# Altium footprint library WR-MM.PcbLib: 120 footprints (part 7 of 8)
Each footprint in its own frame and in the unit in brackets; x right, y up, seen from the top. Pads: shape width x height; smd on the part's side, far side on the other; paste and mask are expansions set on the pad; w line width, h text height; cw(c..) or ccw(c..) is an arc to the next point about the centre after c.
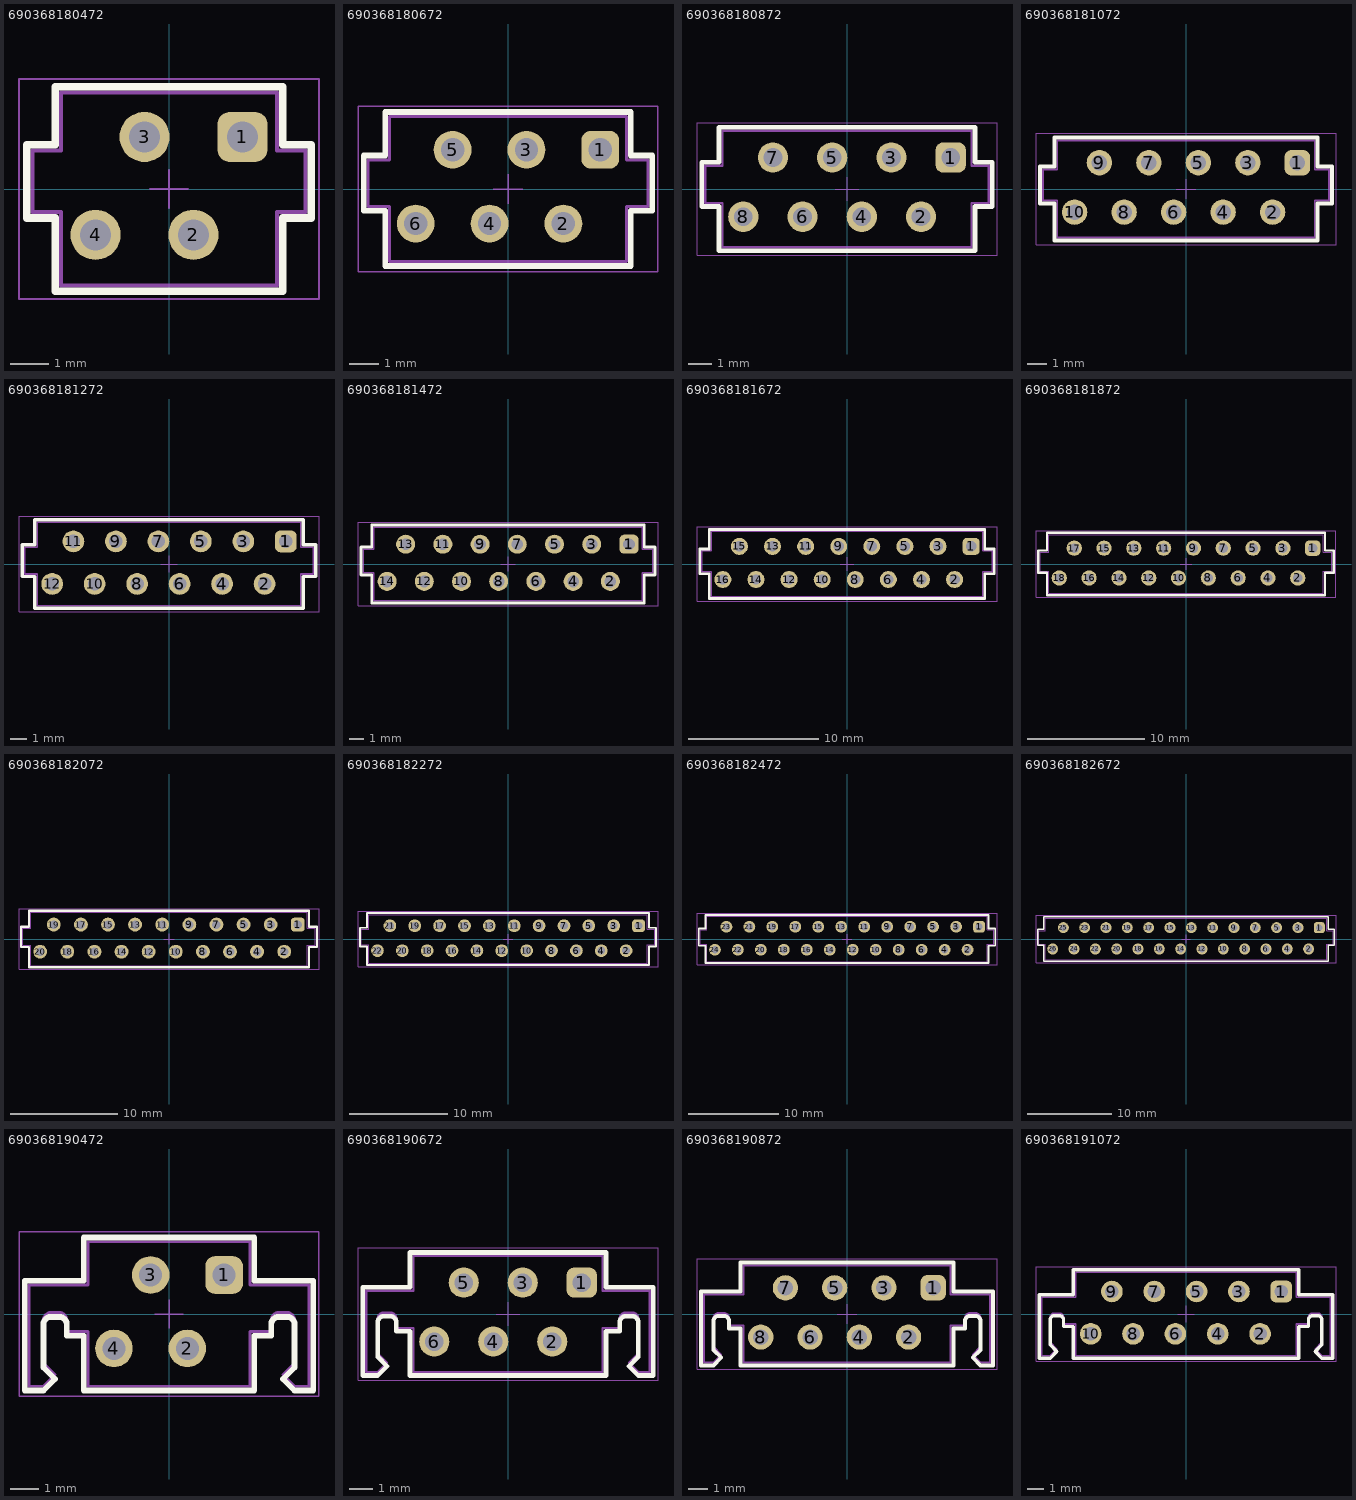
[diagram p6: the footprints below, top view; thin cyan lines are the x and y axes]

## 690368180472 [mm] "MiniModule Connectors, PCB Type, Female, THT, Angled, 4p"
height 6
pads (4):
  rrect50% 1.3x1.3 hole 0.8: 1(1.905,1.35)
  round 1.3 hole 0.8: 2(0.635,-1.19) 3(-0.635,1.35) 4(-1.905,-1.19)
Top Overlay:
  lines w0.2: -3.69,-0.75 -2.95,-0.75 -2.95,-2.65 2.95,-2.65 2.95,-0.75 3.69,-0.75 3.69,1.15 2.95,1.15 2.95,2.65 -2.95,2.65 -2.95,1.15 -3.69,1.15 -3.69,-0.75
Top Designator:
  text ".Designator" at -7.498,-0.5 h1.5
Top Component Outline:
  lines w0.1: -3.54,-0.6 -2.8,-0.6 -2.8,-2.5 2.8,-2.5 2.8,-0.6 3.54,-0.6 3.54,1 2.8,1 2.8,2.5 -2.8,2.5 -2.8,1 -3.54,1 -3.54,-0.6
Top 3D Body:
  lines w0.1: -3.54,-0.6 -3.54,1 -2.8,1 -2.8,2.5 2.8,2.5 2.8,1 3.54,1 3.54,-0.6 2.8,-0.6 2.8,-2.5 -2.8,-2.5 -2.8,-0.6 -3.54,-0.6
Top Courtyard:
  lines w0.05: -0.5,0 0.5,0 ; 0,-0.5 0,0.5 ; -3.89,-2.85 -3.89,2.85 3.89,2.85 3.89,-2.85 -3.89,-2.85
3D body "690368180472.stp": height 5.85, standoff -3.05, extent -3.54,-2.5 3.54,2.5

## 690368180672 [mm] "MiniModule Connectors, PCB Type, Female, THT, Angled, 6p"
height 6
pads (6):
  rrect50% 1.3x1.3 hole 0.8: 1(3.175,1.35)
  round 1.3 hole 0.8: 2(1.905,-1.19) 3(0.635,1.35) 4(-0.635,-1.19) 5(-1.905,1.35) 6(-3.175,-1.19)
Top Overlay:
  lines w0.2: -4.96,-0.75 -4.22,-0.75 -4.22,-2.65 4.22,-2.65 4.22,-0.75 4.96,-0.75 4.96,1.15 4.22,1.15 4.22,2.65 -4.22,2.65 -4.22,1.15 -4.96,1.15 -4.96,-0.75
Top Designator:
  text ".Designator" at -7.498,-0.5 h1.5
Top Component Outline:
  lines w0.1: -4.81,-0.6 -4.07,-0.6 -4.07,-2.5 4.07,-2.5 4.07,-0.6 4.81,-0.6 4.81,1 4.07,1 4.07,2.5 -4.07,2.5 -4.07,1 -4.81,1 -4.81,-0.6
Top 3D Body:
  lines w0.1: -4.81,-0.6 -4.81,1 -4.07,1 -4.07,2.5 4.07,2.5 4.07,1 4.81,1 4.81,-0.6 4.07,-0.6 4.07,-2.5 -4.07,-2.5 -4.07,-0.6 -4.81,-0.6
Top Courtyard:
  lines w0.05: -0.5,0 0.5,0 ; 0,-0.5 0,0.5 ; -5.16,-2.85 -5.16,2.85 5.16,2.85 5.16,-2.85 -5.16,-2.85
3D body "690368180672.stp": height 5.85, standoff -3.05, extent -4.81,-2.5 4.81,2.5

## 690368180872 [mm] "MiniModule Connectors, PCB Type, Female, THT, Angled, 8p"
height 6
pads (8):
  rrect50% 1.3x1.3 hole 0.8: 1(4.445,1.35)
  round 1.3 hole 0.8: 2(3.175,-1.19) 3(1.905,1.35) 4(0.635,-1.19) 5(-0.635,1.35) 6(-1.905,-1.19) 7(-3.175,1.35) 8(-4.445,-1.19)
Top Overlay:
  lines w0.2: -6.23,-0.75 -5.49,-0.75 -5.49,-2.65 5.49,-2.65 5.49,-0.75 6.23,-0.75 6.23,1.15 5.49,1.15 5.49,2.65 -5.49,2.65 -5.49,1.15 -6.23,1.15 -6.23,-0.75
Top Designator:
  text ".Designator" at -7.498,-0.5 h1.5
Top Component Outline:
  lines w0.1: -6.08,-0.6 -5.34,-0.6 -5.34,-2.5 5.34,-2.5 5.34,-0.6 6.08,-0.6 6.08,1 5.34,1 5.34,2.5 -5.34,2.5 -5.34,1 -6.08,1 -6.08,-0.6
Top 3D Body:
  lines w0.1: -6.08,-0.6 -6.08,1 -5.34,1 -5.34,2.5 5.34,2.5 5.34,1 6.08,1 6.08,-0.6 5.34,-0.6 5.34,-2.5 -5.34,-2.5 -5.34,-0.6 -6.08,-0.6
Top Courtyard:
  lines w0.05: -0.5,0 0.5,0 ; 0,-0.5 0,0.5 ; -6.43,-2.85 -6.43,2.85 6.43,2.85 6.43,-2.85 -6.43,-2.85
3D body "690368180872.stp": height 5.85, standoff -3.05, extent -6.08,-2.5 6.08,2.5

## 690368181072 [mm] "MiniModule Connectors, PCB Type, Female, THT, Angled, 10p"
height 6
pads (10):
  rrect50% 1.3x1.3 hole 0.8: 1(5.715,1.35)
  round 1.3 hole 0.8: 2(4.445,-1.19) 3(3.175,1.35) 4(1.905,-1.19) 5(0.635,1.35) 6(-0.635,-1.19) 7(-1.905,1.35) 8(-3.175,-1.19) 9(-4.445,1.35) 10(-5.715,-1.19)
Top Overlay:
  lines w0.2: -7.5,-0.75 -7.5,1.15 -6.76,1.15 -6.76,2.65 6.76,2.65 6.76,1.15 7.5,1.15 7.5,-0.75 6.76,-0.75 6.76,-2.65 -6.76,-2.65 -6.76,-0.75 -7.5,-0.75
Top Designator:
  text ".Designator" at -7.498,-0.5 h1.5
Top Component Outline:
  lines w0.1: -7.35,-0.6 -7.35,1 -6.61,1 -6.61,2.5 6.61,2.5 6.61,1 7.35,1 7.35,-0.6 6.61,-0.6 6.61,-2.5 -6.61,-2.5 -6.61,-0.6 -7.35,-0.6
Top 3D Body:
  lines w0.1: -7.35,-0.6 -6.61,-0.6 -6.61,-2.5 6.61,-2.5 6.61,-0.6 7.35,-0.6 7.35,1 6.61,1 6.61,2.5 -6.61,2.5 -6.61,1 -7.35,1 -7.35,-0.6
Top Courtyard:
  lines w0.05: -0.5,0 0.5,0 ; 0,-0.5 0,0.5 ; -7.7,-2.85 7.7,-2.85 7.7,2.85 -7.7,2.85 -7.7,-2.85
3D body "690368181072.stp": height 5.85, standoff -3.05, extent -7.35,-2.5 7.35,2.5

## 690368181272 [mm] "MiniModule Connectors, PCB Type, Female, THT, Angled, 12p"
height 6
pads (12):
  rrect50% 1.3x1.3 hole 0.8: 1(6.985,1.35)
  round 1.3 hole 0.8: 2(5.715,-1.19) 3(4.445,1.35) 4(3.175,-1.19) 5(1.905,1.35) 6(0.635,-1.19) 7(-0.635,1.35) 8(-1.905,-1.19) 9(-3.175,1.35) 10(-4.445,-1.19) 11(-5.715,1.35) 12(-6.985,-1.19)
Top Overlay:
  lines w0.2: -8.77,-0.75 -8.03,-0.75 -8.03,-2.65 8.03,-2.65 8.03,-0.75 8.77,-0.75 8.77,1.15 8.03,1.15 8.03,2.65 -8.03,2.65 -8.03,1.15 -8.77,1.15 -8.77,-0.75
Top Designator:
  text ".Designator" at -7.498,-0.5 h1.5
Top Component Outline:
  lines w0.1: -8.62,-0.6 -7.88,-0.6 -7.88,-2.5 7.88,-2.5 7.88,-0.6 8.62,-0.6 8.62,1 7.88,1 7.88,2.5 -7.88,2.5 -7.88,1 -8.62,1 -8.62,-0.6
Top 3D Body:
  lines w0.1: -8.62,-0.6 -8.62,1 -7.88,1 -7.88,2.5 7.88,2.5 7.88,1 8.62,1 8.62,-0.6 7.88,-0.6 7.88,-2.5 -7.88,-2.5 -7.88,-0.6 -8.62,-0.6
Top Courtyard:
  lines w0.05: -0.5,0 0.5,0 ; 0,-0.5 0,0.5 ; -8.97,-2.85 -8.97,2.85 8.97,2.85 8.97,-2.85 -8.97,-2.85
3D body "690368181272.stp": height 5.85, standoff -3.05, extent -8.62,-2.5 8.62,2.5

## 690368181472 [mm] "MiniModule Connectors, PCB Type, Female, THT, Angled, 14p"
height 6
pads (14):
  rrect50% 1.3x1.3 hole 0.8: 1(8.255,1.35)
  round 1.3 hole 0.8: 2(6.985,-1.19) 3(5.715,1.35) 4(4.445,-1.19) 5(3.175,1.35) 6(1.905,-1.19) 7(0.635,1.35) 8(-0.635,-1.19) 9(-1.905,1.35) 10(-3.175,-1.19) 11(-4.445,1.35) 12(-5.715,-1.19) 13(-6.985,1.35) 14(-8.255,-1.19)
Top Overlay:
  lines w0.2: -10.04,-0.75 -10.04,1.15 -9.3,1.15 -9.3,2.65 9.3,2.65 9.3,1.15 10.04,1.15 10.04,-0.75 9.3,-0.75 9.3,-2.65 -9.3,-2.65 -9.3,-0.75 -10.04,-0.75
Top Designator:
  text ".Designator" at -7.498,-0.5 h1.5
Top Component Outline:
  lines w0.1: -9.89,-0.6 -9.89,1 -9.15,1 -9.15,2.5 9.15,2.5 9.15,1 9.89,1 9.89,-0.6 9.15,-0.6 9.15,-2.5 -9.15,-2.5 -9.15,-0.6 -9.89,-0.6
Top 3D Body:
  lines w0.1: -9.89,-0.6 -9.15,-0.6 -9.15,-2.5 9.15,-2.5 9.15,-0.6 9.89,-0.6 9.89,1 9.15,1 9.15,2.5 -9.15,2.5 -9.15,1 -9.89,1 -9.89,-0.6
Top Courtyard:
  lines w0.05: -0.5,0 0.5,0 ; 0,-0.5 0,0.5 ; -10.24,-2.85 10.24,-2.85 10.24,2.85 -10.24,2.85 -10.24,-2.85
3D body "690368181472.stp": height 5.85, standoff -3.05, extent -9.89,-2.5 9.89,2.5

## 690368181672 [mm] "MiniModule Connectors, PCB Type, Female, THT, Angled, 16p"
height 6
pads (16):
  rrect50% 1.3x1.3 hole 0.8: 1(9.525,1.35)
  round 1.3 hole 0.8: 2(8.255,-1.19) 3(6.985,1.35) 4(5.715,-1.19) 5(4.445,1.35) 6(3.175,-1.19) 7(1.905,1.35) 8(0.635,-1.19) 9(-0.635,1.35) 10(-1.905,-1.19) 11(-3.175,1.35) 12(-4.445,-1.19) 13(-5.715,1.35) 14(-6.985,-1.19) 15(-8.255,1.35) 16(-9.525,-1.19)
Top Overlay:
  lines w0.2: -11.31,-0.75 -11.31,1.15 -10.57,1.15 -10.57,2.65 10.57,2.65 10.57,1.15 11.31,1.15 11.31,-0.75 10.57,-0.75 10.57,-2.65 -10.57,-2.65 -10.57,-0.75 -11.31,-0.75
Top Designator:
  text ".Designator" at -7.498,-0.5 h1.5
Top Component Outline:
  lines w0.1: -11.16,-0.6 -11.16,1 -10.42,1 -10.42,2.5 10.42,2.5 10.42,1 11.16,1 11.16,-0.6 10.42,-0.6 10.42,-2.5 -10.42,-2.5 -10.42,-0.6 -11.16,-0.6
Top 3D Body:
  lines w0.1: -11.16,-0.6 -10.42,-0.6 -10.42,-2.5 10.42,-2.5 10.42,-0.6 11.16,-0.6 11.16,1 10.42,1 10.42,2.5 -10.42,2.5 -10.42,1 -11.16,1 -11.16,-0.6
Top Courtyard:
  lines w0.05: -0.5,0 0.5,0 ; 0,-0.5 0,0.5 ; -11.51,-2.85 11.51,-2.85 11.51,2.85 -11.51,2.85 -11.51,-2.85
3D body "690368181672.stp": height 5.85, standoff -3.05, extent -11.16,-2.5 11.16,2.5

## 690368181872 [mm] "MiniModule Connectors, PCB Type, Female, THT, Angled, 18p"
height 6
pads (18):
  rrect50% 1.3x1.3 hole 0.8: 1(10.795,1.35)
  round 1.3 hole 0.8: 2(9.525,-1.19) 3(8.255,1.35) 4(6.985,-1.19) 5(5.715,1.35) 6(4.445,-1.19) 7(3.175,1.35) 8(1.905,-1.19) 9(0.635,1.35) 10(-0.635,-1.19) 11(-1.905,1.35) 12(-3.175,-1.19) 13(-4.445,1.35) 14(-5.715,-1.19) 15(-6.985,1.35) 16(-8.255,-1.19) 17(-9.525,1.35) 18(-10.795,-1.19)
Top Overlay:
  lines w0.2: -12.58,-0.75 -11.84,-0.75 -11.84,-2.65 11.84,-2.65 11.84,-0.75 12.58,-0.75 12.58,1.15 11.84,1.15 11.84,2.65 -11.84,2.65 -11.84,1.15 -12.58,1.15 -12.58,-0.75
Top Designator:
  text ".Designator" at -7.498,-0.5 h1.5
Top Component Outline:
  lines w0.1: -12.43,-0.6 -11.69,-0.6 -11.69,-2.5 11.69,-2.5 11.69,-0.6 12.43,-0.6 12.43,1 11.69,1 11.69,2.5 -11.69,2.5 -11.69,1 -12.43,1 -12.43,-0.6
Top 3D Body:
  lines w0.1: -12.43,-0.6 -12.43,1 -11.69,1 -11.69,2.5 11.69,2.5 11.69,1 12.43,1 12.43,-0.6 11.69,-0.6 11.69,-2.5 -11.69,-2.5 -11.69,-0.6 -12.43,-0.6
Top Courtyard:
  lines w0.05: -0.5,0 0.5,0 ; 0,-0.5 0,0.5 ; -12.78,-2.85 -12.78,2.85 12.78,2.85 12.78,-2.85 -12.78,-2.85
3D body "690368181872.stp": height 5.85, standoff -3.05, extent -12.43,-2.5 12.43,2.5

## 690368182072 [mm] "MiniModule Connectors, PCB Type, Female, THT, Angled, 20p"
height 6
pads (20):
  rrect50% 1.3x1.3 hole 0.8: 1(12.065,1.35)
  round 1.3 hole 0.8: 2(10.795,-1.19) 3(9.525,1.35) 4(8.255,-1.19) 5(6.985,1.35) 6(5.715,-1.19) 7(4.445,1.35) 8(3.175,-1.19) 9(1.905,1.35) 10(0.635,-1.19) 11(-0.635,1.35) 12(-1.905,-1.19) 13(-3.175,1.35) 14(-4.445,-1.19) 15(-5.715,1.35) 16(-6.985,-1.19) 17(-8.255,1.35) 18(-9.525,-1.19) 19(-10.795,1.35) 20(-12.065,-1.19)
Top Overlay:
  lines w0.2: -13.85,-0.75 -13.85,1.15 -13.11,1.15 -13.11,2.65 13.11,2.65 13.11,1.15 13.85,1.15 13.85,-0.75 13.11,-0.75 13.11,-2.65 -13.11,-2.65 -13.11,-0.75 -13.85,-0.75
Top Designator:
  text ".Designator" at -7.498,-0.5 h1.5
Top Component Outline:
  lines w0.1: -13.7,-0.6 -13.7,1 -12.96,1 -12.96,2.5 12.96,2.5 12.96,1 13.7,1 13.7,-0.6 12.96,-0.6 12.96,-2.5 -12.96,-2.5 -12.96,-0.6 -13.7,-0.6
Top 3D Body:
  lines w0.1: -13.7,-0.6 -12.96,-0.6 -12.96,-2.5 12.96,-2.5 12.96,-0.6 13.7,-0.6 13.7,1 12.96,1 12.96,2.5 -12.96,2.5 -12.96,1 -13.7,1 -13.7,-0.6
Top Courtyard:
  lines w0.05: -0.5,0 0.5,0 ; 0,-0.5 0,0.5 ; -14.05,-2.85 14.05,-2.85 14.05,2.85 -14.05,2.85 -14.05,-2.85
3D body "690368182072.stp": height 5.85, standoff -3.05, extent -13.7,-2.5 13.7,2.5

## 690368182272 [mm] "MiniModule Connectors, PCB Type, Female, THT, Angled, 22p"
height 6
pads (22):
  rrect50% 1.3x1.3 hole 0.8: 1(13.335,1.35)
  round 1.3 hole 0.8: 2(12.065,-1.19) 3(10.795,1.35) 4(9.525,-1.19) 5(8.255,1.35) 6(6.985,-1.19) 7(5.715,1.35) 8(4.445,-1.19) 9(3.175,1.35) 10(1.905,-1.19) 11(0.635,1.35) 12(-0.635,-1.19) 13(-1.905,1.35) 14(-3.175,-1.19) 15(-4.445,1.35) 16(-5.715,-1.19) 17(-6.985,1.35) 18(-8.255,-1.19) 19(-9.525,1.35) 20(-10.795,-1.19) 21(-12.065,1.35) 22(-13.335,-1.19)
Top Overlay:
  lines w0.2: -15.12,-0.75 -14.38,-0.75 -14.38,-2.65 14.38,-2.65 14.38,-0.75 15.12,-0.75 15.12,1.15 14.38,1.15 14.38,2.65 -14.38,2.65 -14.38,1.15 -15.12,1.15 -15.12,-0.75
Top Designator:
  text ".Designator" at -7.498,-0.5 h1.5
Top Component Outline:
  lines w0.1: -14.97,-0.6 -14.23,-0.6 -14.23,-2.5 14.23,-2.5 14.23,-0.6 14.97,-0.6 14.97,1 14.23,1 14.23,2.5 -14.23,2.5 -14.23,1 -14.97,1 -14.97,-0.6
Top 3D Body:
  lines w0.1: -14.97,-0.6 -14.97,1 -14.23,1 -14.23,2.5 14.23,2.5 14.23,1 14.97,1 14.97,-0.6 14.23,-0.6 14.23,-2.5 -14.23,-2.5 -14.23,-0.6 -14.97,-0.6
Top Courtyard:
  lines w0.05: -0.5,0 0.5,0 ; 0,-0.5 0,0.5 ; -15.32,-2.85 -15.32,2.85 15.32,2.85 15.32,-2.85 -15.32,-2.85
3D body "690368182272.stp": height 5.85, standoff -3.05, extent -14.97,-2.5 14.97,2.5

## 690368182472 [mm] "MiniModule Connectors, PCB Type, Female, THT, Angled, 24p"
height 6
pads (24):
  rrect50% 1.3x1.3 hole 0.8: 1(14.605,1.35)
  round 1.3 hole 0.8: 2(13.335,-1.19) 3(12.065,1.35) 4(10.795,-1.19) 5(9.525,1.35) 6(8.255,-1.19) 7(6.985,1.35) 8(5.715,-1.19) 9(4.445,1.35) 10(3.175,-1.19) 11(1.905,1.35) 12(0.635,-1.19) 13(-0.635,1.35) 14(-1.905,-1.19) 15(-3.175,1.35) 16(-4.445,-1.19) 17(-5.715,1.35) 18(-6.985,-1.19) 19(-8.255,1.35) 20(-9.525,-1.19) 21(-10.795,1.35) 22(-12.065,-1.19) 23(-13.335,1.35) 24(-14.605,-1.19)
Top Overlay:
  lines w0.2: -16.39,-0.75 -15.65,-0.75 -15.65,-2.65 15.65,-2.65 15.65,-0.75 16.39,-0.75 16.39,1.15 15.65,1.15 15.65,2.65 -15.65,2.65 -15.65,1.15 -16.39,1.15 -16.39,-0.75
Top Designator:
  text ".Designator" at -7.498,-0.5 h1.5
Top Component Outline:
  lines w0.1: -16.24,-0.6 -15.5,-0.6 -15.5,-2.5 15.5,-2.5 15.5,-0.6 16.24,-0.6 16.24,1 15.5,1 15.5,2.5 -15.5,2.5 -15.5,1 -16.24,1 -16.24,-0.6
Top 3D Body:
  lines w0.1: -16.24,-0.6 -16.24,1 -15.5,1 -15.5,2.5 15.5,2.5 15.5,1 16.24,1 16.24,-0.6 15.5,-0.6 15.5,-2.5 -15.5,-2.5 -15.5,-0.6 -16.24,-0.6
Top Courtyard:
  lines w0.05: -0.5,0 0.5,0 ; 0,-0.5 0,0.5 ; -16.59,-2.85 -16.59,2.85 16.59,2.85 16.59,-2.85 -16.59,-2.85
3D body "690368182472.stp": height 5.85, standoff -3.05, extent -16.24,-2.5 16.24,2.5

## 690368182672 [mm] "MiniModule Connectors, PCB Type, Female, THT, Angled, 26p"
height 6
pads (26):
  rrect50% 1.3x1.3 hole 0.8: 1(15.875,1.35)
  round 1.3 hole 0.8: 2(14.605,-1.19) 3(13.335,1.35) 4(12.065,-1.19) 5(10.795,1.35) 6(9.525,-1.19) 7(8.255,1.35) 8(6.985,-1.19) 9(5.715,1.35) 10(4.445,-1.19) 11(3.175,1.35) 12(1.905,-1.19) 13(0.635,1.35) 14(-0.635,-1.19) 15(-1.905,1.35) 16(-3.175,-1.19) 17(-4.445,1.35) 18(-5.715,-1.19) 19(-6.985,1.35) 20(-8.255,-1.19) 21(-9.525,1.35) 22(-10.795,-1.19) 23(-12.065,1.35) 24(-13.335,-1.19) 25(-14.605,1.35) 26(-15.875,-1.19)
Top Overlay:
  lines w0.2: -17.66,-0.75 -17.66,1.15 -16.92,1.15 -16.92,2.65 16.92,2.65 16.92,1.15 17.66,1.15 17.66,-0.75 16.92,-0.75 16.92,-2.65 -16.92,-2.65 -16.92,-0.75 -17.66,-0.75
Top Designator:
  text ".Designator" at -7.498,-0.5 h1.5
Top Component Outline:
  lines w0.1: -17.51,-0.6 -17.51,1 -16.77,1 -16.77,2.5 16.77,2.5 16.77,1 17.51,1 17.51,-0.6 16.77,-0.6 16.77,-2.5 -16.77,-2.5 -16.77,-0.6 -17.51,-0.6
Top 3D Body:
  lines w0.1: -17.51,-0.6 -16.77,-0.6 -16.77,-2.5 16.77,-2.5 16.77,-0.6 17.51,-0.6 17.51,1 16.77,1 16.77,2.5 -16.77,2.5 -16.77,1 -17.51,1 -17.51,-0.6
Top Courtyard:
  lines w0.05: -0.5,0 0.5,0 ; 0,-0.5 0,0.5 ; -17.86,-2.85 17.86,-2.85 17.86,2.85 -17.86,2.85 -17.86,-2.85
3D body "690368182672.stp": height 5.85, standoff -3.05, extent -17.51,-2.5 17.51,2.5

## 690368190472 [mm] "MiniModule Connectors, PCB Type, Female, THT, Angled, 4p"
height 6
pads (4):
  rrect50% 1.3x1.3 hole 0.8: 1(1.905,1.35)
  round 1.3 hole 0.8: 2(0.635,-1.19) 3(-0.635,1.35) 4(-1.905,-1.19)
Top Overlay:
  lines w0.2: -4.99,-2.65 -4.34,-2.65 -3.94,-2.25 -4.34,-1.85 -4.34,-0.3 cw(c-4.04,-0.4) -4.14,-0.1 -3.74,-0.1 cw(c-3.84,-0.4) -3.54,-0.3 -3.54,-0.75 -2.95,-0.75 -2.95,-2.65 2.95,-2.65 2.95,-0.75 3.54,-0.75 3.54,-0.3 cw(c3.84,-0.4) 3.74,-0.1 4.14,-0.1 cw(c4.04,-0.4) 4.34,-0.3 4.34,-1.85 3.94,-2.25 4.34,-2.65 4.99,-2.65 4.99,1.15 2.95,1.15 2.95,2.65 -2.95,2.65 -2.95,1.15 -4.99,1.15 -4.99,-2.65
Top Designator:
  text ".Designator" at -7.498,-0.5 h1.5
Top Component Outline:
  lines w0.1: -4.84,-2.5 -4.34,-2.5 -3.94,-2.1 -4.34,-1.7 -4.34,-0.15 cw(c-4.04,-0.25) -4.14,0.05 -3.74,0.05 cw(c-3.84,-0.25) -3.54,-0.15 -3.54,-0.6 -2.8,-0.6 -2.8,-2.5 2.8,-2.5 2.8,-0.6 3.54,-0.6 3.54,-0.15 cw(c3.84,-0.25) 3.74,0.05 4.14,0.05 cw(c4.04,-0.25) 4.34,-0.15 4.34,-1.7 3.94,-2.1 4.34,-2.5 4.84,-2.5 4.84,1 2.8,1 2.8,2.5 -2.8,2.5 -2.8,1 -4.84,1 -4.84,-2.5
Top 3D Body:
  lines w0.1: -4.84,-2.5 -4.84,1 -2.8,1 -2.8,2.5 2.8,2.5 2.8,1 4.84,1 4.84,-2.5 4.34,-2.5 3.94,-2.1 4.34,-1.7 4.34,-0.15 ccw(c4.04,-0.25) 4.14,0.05 3.74,0.05 ccw(c3.84,-0.25) 3.54,-0.15 3.54,-0.6 2.8,-0.6 2.8,-2.5 -2.8,-2.5 -2.8,-0.6 -3.54,-0.6 -3.54,-0.15 ccw(c-3.84,-0.25) -3.74,0.05 -4.14,0.05 ccw(c-4.04,-0.25) -4.34,-0.15 -4.34,-1.7 -3.94,-2.1 -4.34,-2.5 -4.84,-2.5
Top Courtyard:
  lines w0.05: -0.5,0 0.5,0 ; 0,-0.5 0,0.5 ; -5.19,-2.85 -5.19,2.85 5.19,2.85 5.19,-2.85 -5.19,-2.85
3D body "690368190472.stp": height 5.85, standoff -3.05, extent -4.84,-2.5 4.84,2.5

## 690368190672 [mm] "MiniModule Connectors, PCB Type, Female, THT, Angled, 6p"
height 6
pads (6):
  rrect50% 1.3x1.3 hole 0.8: 1(3.175,1.35)
  round 1.3 hole 0.8: 2(1.905,-1.19) 3(0.635,1.35) 4(-0.635,-1.19) 5(-1.905,1.35) 6(-3.175,-1.19)
Top Overlay:
  lines w0.2: -6.26,-2.65 -5.61,-2.65 -5.21,-2.25 -5.61,-1.85 -5.61,-0.3 cw(c-5.31,-0.4) -5.41,-0.1 -5.01,-0.1 cw(c-5.11,-0.4) -4.81,-0.3 -4.81,-0.75 -4.22,-0.75 -4.22,-2.65 4.22,-2.65 4.22,-0.75 4.81,-0.75 4.81,-0.3 cw(c5.11,-0.4) 5.01,-0.1 5.41,-0.1 cw(c5.31,-0.4) 5.61,-0.3 5.61,-1.85 5.21,-2.25 5.61,-2.65 6.26,-2.65 6.26,1.15 4.22,1.15 4.22,2.65 -4.22,2.65 -4.22,1.15 -6.26,1.15 -6.26,-2.65
Top Designator:
  text ".Designator" at -7.498,-0.5 h1.5
Top Component Outline:
  lines w0.1: -6.11,-2.5 -5.61,-2.5 -5.21,-2.1 -5.61,-1.7 -5.61,-0.15 cw(c-5.31,-0.25) -5.41,0.05 -5.01,0.05 cw(c-5.11,-0.25) -4.81,-0.15 -4.81,-0.6 -4.07,-0.6 -4.07,-2.5 4.07,-2.5 4.07,-0.6 4.81,-0.6 4.81,-0.15 cw(c5.11,-0.25) 5.01,0.05 5.41,0.05 cw(c5.31,-0.25) 5.61,-0.15 5.61,-1.7 5.21,-2.1 5.61,-2.5 6.11,-2.5 6.11,1 4.07,1 4.07,2.5 -4.07,2.5 -4.07,1 -6.11,1 -6.11,-2.5
Top 3D Body:
  lines w0.1: -6.11,-2.5 -6.11,1 -4.07,1 -4.07,2.5 4.07,2.5 4.07,1 6.11,1 6.11,-2.5 5.61,-2.5 5.21,-2.1 5.61,-1.7 5.61,-0.15 ccw(c5.31,-0.25) 5.41,0.05 5.01,0.05 ccw(c5.11,-0.25) 4.81,-0.15 4.81,-0.6 4.07,-0.6 4.07,-2.5 -4.07,-2.5 -4.07,-0.6 -4.81,-0.6 -4.81,-0.15 ccw(c-5.11,-0.25) -5.01,0.05 -5.41,0.05 ccw(c-5.31,-0.25) -5.61,-0.15 -5.61,-1.7 -5.21,-2.1 -5.61,-2.5 -6.11,-2.5
Top Courtyard:
  lines w0.05: -0.5,0 0.5,0 ; 0,-0.5 0,0.5 ; -6.46,-2.85 -6.46,2.85 6.46,2.85 6.46,-2.85 -6.46,-2.85
3D body "690368190672.stp": height 5.85, standoff -3.05, extent -6.11,-2.5 6.11,2.5

## 690368190872 [mm] "MiniModule Connectors, PCB Type, Female, THT, Angled, 8p"
height 6
pads (8):
  rrect50% 1.3x1.3 hole 0.8: 1(4.445,1.35)
  round 1.3 hole 0.8: 2(3.175,-1.19) 3(1.905,1.35) 4(0.635,-1.19) 5(-0.635,1.35) 6(-1.905,-1.19) 7(-3.175,1.35) 8(-4.445,-1.19)
Top Overlay:
  lines w0.2: -7.53,-2.65 -7.53,1.15 -5.49,1.15 -5.49,2.65 5.49,2.65 5.49,1.15 7.53,1.15 7.53,-2.65 6.88,-2.65 6.48,-2.25 6.88,-1.85 6.88,-0.3 ccw(c6.58,-0.4) 6.68,-0.1 6.28,-0.1 ccw(c6.38,-0.4) 6.08,-0.3 6.08,-0.75 5.49,-0.75 5.49,-2.65 -5.49,-2.65 -5.49,-0.75 -6.08,-0.75 -6.08,-0.3 ccw(c-6.38,-0.4) -6.28,-0.1 -6.68,-0.1 ccw(c-6.58,-0.4) -6.88,-0.3 -6.88,-1.85 -6.48,-2.25 -6.88,-2.65 -7.53,-2.65
Top Designator:
  text ".Designator" at -7.498,-0.5 h1.5
Top Component Outline:
  lines w0.1: -7.38,-2.5 -7.38,1 -5.34,1 -5.34,2.5 5.34,2.5 5.34,1 7.38,1 7.38,-2.5 6.88,-2.5 6.48,-2.1 6.88,-1.7 6.88,-0.15 ccw(c6.58,-0.25) 6.68,0.05 6.28,0.05 ccw(c6.38,-0.25) 6.08,-0.15 6.08,-0.6 5.34,-0.6 5.34,-2.5 -5.34,-2.5 -5.34,-0.6 -6.08,-0.6 -6.08,-0.15 ccw(c-6.38,-0.25) -6.28,0.05 -6.68,0.05 ccw(c-6.58,-0.25) -6.88,-0.15 -6.88,-1.7 -6.48,-2.1 -6.88,-2.5 -7.38,-2.5
Top 3D Body:
  lines w0.1: -7.38,-2.5 -6.88,-2.5 -6.48,-2.1 -6.88,-1.7 -6.88,-0.15 cw(c-6.58,-0.25) -6.68,0.05 -6.28,0.05 cw(c-6.38,-0.25) -6.08,-0.15 -6.08,-0.6 -5.34,-0.6 -5.34,-2.5 5.34,-2.5 5.34,-0.6 6.08,-0.6 6.08,-0.15 cw(c6.38,-0.25) 6.28,0.05 6.68,0.05 cw(c6.58,-0.25) 6.88,-0.15 6.88,-1.7 6.48,-2.1 6.88,-2.5 7.38,-2.5 7.38,1 5.34,1 5.34,2.5 -5.34,2.5 -5.34,1 -7.38,1 -7.38,-2.5
Top Courtyard:
  lines w0.05: -0.5,0 0.5,0 ; 0,-0.5 0,0.5 ; -7.73,-2.85 7.73,-2.85 7.73,2.85 -7.73,2.85 -7.73,-2.85
3D body "690368190872.stp": height 5.85, standoff -3.05, extent -7.38,-2.5 7.38,2.5

## 690368191072 [mm] "MiniModule Connectors, PCB Type, Female, THT, Angled, 10p"
height 6
pads (10):
  rrect50% 1.3x1.3 hole 0.8: 1(5.715,1.35)
  round 1.3 hole 0.8: 2(4.445,-1.19) 3(3.175,1.35) 4(1.905,-1.19) 5(0.635,1.35) 6(-0.635,-1.19) 7(-1.905,1.35) 8(-3.175,-1.19) 9(-4.445,1.35) 10(-5.715,-1.19)
Top Overlay:
  lines w0.2: -8.8,-2.65 -8.8,1.15 -6.76,1.15 -6.76,2.65 6.76,2.65 6.76,1.15 8.8,1.15 8.8,-2.65 8.15,-2.65 7.75,-2.25 8.15,-1.85 8.15,-0.3 ccw(c7.85,-0.4) 7.95,-0.1 7.55,-0.1 ccw(c7.65,-0.4) 7.35,-0.3 7.35,-0.75 6.76,-0.75 6.76,-2.65 -6.76,-2.65 -6.76,-0.75 -7.35,-0.75 -7.35,-0.3 ccw(c-7.65,-0.4) -7.55,-0.1 -7.95,-0.1 ccw(c-7.85,-0.4) -8.15,-0.3 -8.15,-1.85 -7.75,-2.25 -8.15,-2.65 -8.8,-2.65
Top Designator:
  text ".Designator" at -7.498,-0.5 h1.5
Top Component Outline:
  lines w0.1: -8.65,-2.5 -8.65,1 -6.61,1 -6.61,2.5 6.61,2.5 6.61,1 8.65,1 8.65,-2.5 8.15,-2.5 7.75,-2.1 8.15,-1.7 8.15,-0.15 ccw(c7.85,-0.25) 7.95,0.05 7.55,0.05 ccw(c7.65,-0.25) 7.35,-0.15 7.35,-0.6 6.61,-0.6 6.61,-2.5 -6.61,-2.5 -6.61,-0.6 -7.35,-0.6 -7.35,-0.15 ccw(c-7.65,-0.25) -7.55,0.05 -7.95,0.05 ccw(c-7.85,-0.25) -8.15,-0.15 -8.15,-1.7 -7.75,-2.1 -8.15,-2.5 -8.65,-2.5
Top 3D Body:
  lines w0.1: -8.65,-2.5 -8.15,-2.5 -7.75,-2.1 -8.15,-1.7 -8.15,-0.15 cw(c-7.85,-0.25) -7.95,0.05 -7.55,0.05 cw(c-7.65,-0.25) -7.35,-0.15 -7.35,-0.6 -6.61,-0.6 -6.61,-2.5 6.61,-2.5 6.61,-0.6 7.35,-0.6 7.35,-0.15 cw(c7.65,-0.25) 7.55,0.05 7.95,0.05 cw(c7.85,-0.25) 8.15,-0.15 8.15,-1.7 7.75,-2.1 8.15,-2.5 8.65,-2.5 8.65,1 6.61,1 6.61,2.5 -6.61,2.5 -6.61,1 -8.65,1 -8.65,-2.5
Top Courtyard:
  lines w0.05: -0.5,0 0.5,0 ; 0,-0.5 0,0.5 ; -9,-2.85 9,-2.85 9,2.85 -9,2.85 -9,-2.85
3D body "690368191072.stp": height 5.85, standoff -3.05, extent -8.65,-2.5 8.65,2.5